# EAGLE library part M25PE16 (library faout)
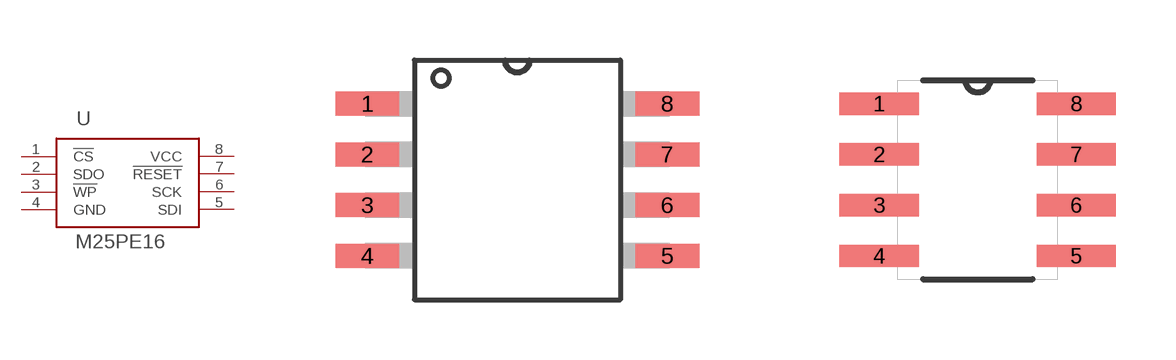
[diagram p11: symbol with the pads of SO8W; footprints SO8W, SOIC127P600X175-8N]

Designator prefix U

## M25PE16SO8W (OC_FARNELL: 2253717)  [SO8W]
1  !CS  in
2  SDO  out
3  !WP  in
4  GND  pas
5  SDI  in
6  SCK  in
7  !RESET  in
8  VCC  pwr

## M25PE16SO8N (OC_FARNELL: 1734973)  [SOIC127P600X175-8N]
Pads as for SO8W

## Footprint SO8W (pad centres in mm)
smd 1.6 x 0.6: 1 -3.75,1.905; 2 -3.75,0.635; 3 -3.75,-0.635; 4 -3.75,-1.905; 5 3.75,-1.905; 6 3.75,-0.635; 7 3.75,0.635; 8 3.75,1.905

## Footprint SOIC127P600X175-8N (pad centres in mm)
smd 1.981 x 0.559: 1 -2.464,1.905; 2 -2.464,0.635; 3 -2.464,-0.635; 4 -2.464,-1.905; 5 2.464,-1.905; 6 2.464,-0.635; 7 2.464,0.635; 8 2.464,1.905